# Altium integrated library 74LVC2G53.IntLib: 1 symbol
Pins are listed as number, name and electrical type; pins without a type are passive.

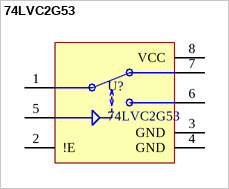
[diagram p0: symbol 74LVC2G53]

## 74LVC2G53
designator U?
Supplier 1: Farnell; Supplier 2: Digi-Key; Supplier 3: Mouser; Supplier Part Number 1: N/A; Supplier Part Number 2: 74LVC2G53DC,125-ND; Supplier Part Number 3: 771-LVC2G53DC125
footprint VSSOP8_SOT765-1
pins: 1 Z, 2 !E, 3 GND, 4 GND, 5 S, 6 Y1, 7 Y0, 8 VCC